# Altium footprint library R0805(2012).PcbLib: 1 footprints
Each footprint in its own frame and in the unit in brackets; x right, y up, seen from the top. Pads: shape width x height; smd on the part's side, far side on the other; paste and mask are expansions set on the pad; w line width, h text height; cw(c..) or ccw(c..) is an arc to the next point about the centre after c.
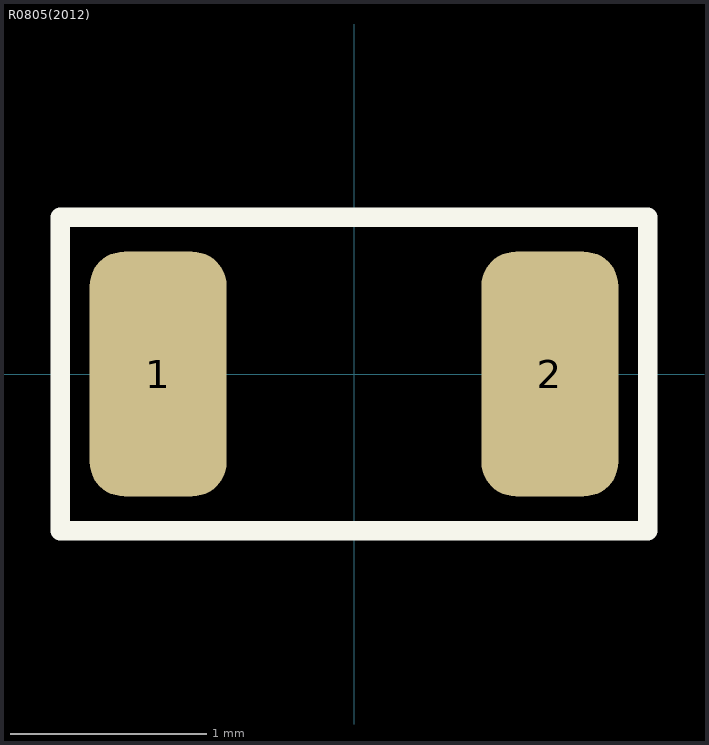
[diagram p0: the footprint, top view; thin cyan lines are the x and y axes]

## R0805(2012) [mm]
height 0.55
pads (2):
  rrect50% 0.7x1.25 smd: 1(-1,0) 2(1,0)
Top Overlay:
  lines w0.1: -1.5,-0.8 1.5,-0.8 1.5,0.8 -1.5,0.8 -1.5,-0.8
3D body "SMD R-0805.STEP": height 0.6, standoff 0, extent -1,-0.625 1,0.625